# Altium footprint library 飞控接收机主板.PcbLib: 5 footprints
Each footprint in its own frame and in the unit in brackets; x right, y up, seen from the top. Pads: shape width x height; smd on the part's side, far side on the other; paste and mask are expansions set on the pad; w line width, h text height; cw(c..) or ccw(c..) is an arc to the next point about the centre after c.
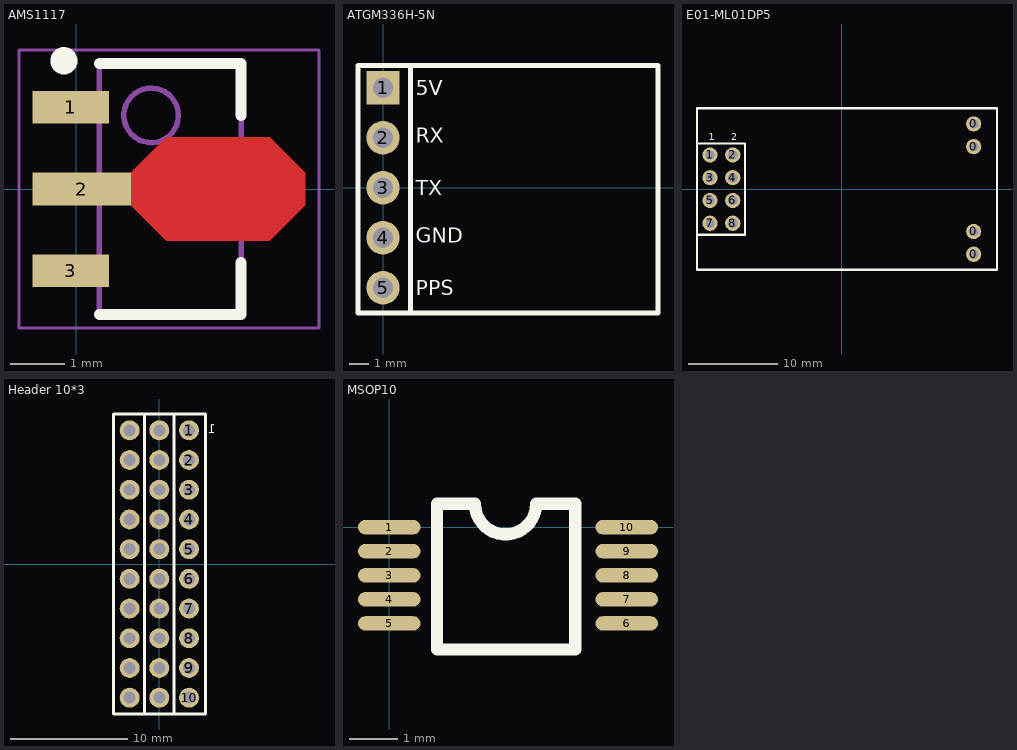
[diagram p0: the footprints below, top view; thin cyan lines are the x and y axes]

## AMS1117 [mm] "3V3降压芯片"
pads (3):
  rect 1.4x0.6 smd: 1(-0.1,1.5) 3(-0.1,-1.5)
  rect 1.8x0.6 smd: 2(0.1,0)
Top Layer:
  region: 0.889,0.189 1.65,0.95 3.55,0.95 4.2,0.3 4.2,-0.3 3.55,-0.95 1.65,-0.95 0.889,-0.189
Top Overlay:
  circle w0.25: c-0.227,2.35 r0.125
  lines w0.2: 0.423,-2.3 3.023,-2.3 3.023,-1.35 ; 0.423,2.3 3.023,2.3 3.023,1.35
Mechanical 13:
  circle w0.1: c1.373,1.35 r0.5
  lines w0.1: 0.423,-2.3 0.423,2.3 3.023,2.3 3.023,-2.3 0.423,-2.3
Mechanical 15:
  lines w0.05: -1.05,-2.55 -1.05,2.55 4.45,2.55 4.45,-2.55 -1.05,-2.55
  lines w0.1: 0.588,0 1.588,0 ; 1.723,-0.5 1.723,0.5
3D body "AMS1117.step": height 1.6, standoff 0, extent -0.5,-2.3 3.55,2.3

## ATGM336H-5N [mm] "GPS模块"
pads (5):
  rect 1.7x1.7 hole 1.02: 1(0,5.08)
  round 1.7 hole 1.02: 2(0,2.54) 3(0,0) 4(0,-2.54) 5(0,-5.08)
Top Overlay:
  lines w0.254: 1.397,-6.35 1.397,6.223 ; 13.922,6.223 -1.27,6.223 -1.27,-6.35 13.97,-6.35 13.97,6.223
  text "5V" at 1.651,4.699 h0.76
  text "RX" at 1.651,2.286 h0.76
  text "TX" at 1.651,-0.381 h0.76
  text "GND" at 1.651,-2.794 h0.76
  text "PPS" at 1.651,-5.461 h0.76

## E01-ML01DP5 [mm] "2.4G模块"
pads (12):
  round 1.7 hole 1.02: 0(14.7,-7.27) 0(14.7,-4.73) 0(14.7,4.73) 0(14.7,7.27) 1(-14.7,3.81) 2(-12.16,3.81) 3(-14.7,1.27) 4(-12.16,1.27) 5(-14.7,-1.27) 6(-12.16,-1.27) 7(-14.7,-3.81) 8(-12.16,-3.81)
Top Overlay:
  lines w0.254: -16.129,-5.08 -10.795,-5.08 -10.795,5.08 -16.002,5.08 ; 14.764,9.017 17.3,9.017 ; 17.3,9.017 17.3,9 17.3,-9 -16.15,-9 -16.15,0 -16.15,9.017 17.3,9.017
  text "2" at -12.319,5.461 h0.76
  text "1" at -14.859,5.461 h0.76

## Header 10*3 [mm] "10孔3排弯针接插件，2.54mm"
pads (30):
  round 1.7 hole 1.02: 1(2.54,11.43) 2(2.54,8.89) 3(2.54,6.35) 4(2.54,3.81) 5(2.54,1.27) 6(2.54,-1.27) 7(2.54,-3.81) 8(2.54,-6.35) 9(2.54,-8.89) 10(2.54,-11.43) ""(-2.54,-11.43) ""(-2.54,-8.89) ""(-2.54,-6.35) ""(-2.54,-3.81) ""(-2.54,-1.27) ""(-2.54,1.27) ""(-2.54,3.81) ""(-2.54,6.35) ""(-2.54,8.89) ""(-2.54,11.43) ""(0,-11.43) ""(0,-8.89) ""(0,-6.35) ""(0,-3.81) ""(0,-1.27) ""(0,1.27) ""(0,3.81) ""(0,6.35) ""(0,8.89) ""(0,11.43)
Top Overlay:
  lines w0.254: -1.27,-12.827 -1.27,12.827 1.27,12.827 1.27,-12.7 ; -3.937,-12.827 -3.937,12.827 3.937,12.827 3.937,-12.827 -3.937,-12.827
  text "1" at 4.826,11.176 h0.76

## MSOP10 [mm] "VSOP8"
height 5
pads (10):
  oval 1.3x0.3 smd: 1(0,0) 2(0,-0.5) 3(0,-1) 4(0,-1.5) 5(0,-2) 6(4.928,-2) 7(4.928,-1.5) 8(4.928,-1) 9(4.928,-0.5) 10(4.928,0)
Top Overlay:
  lines w0.254: 0.991,-2.54 3.861,-2.54 3.861,0.483 3.048,0.483 cw(c2.413,0.483) 1.778,0.483 0.991,0.483 0.991,-2.54
3D body "MSOP10-1.step": height 1.09, standoff 0, extent -0.111,-2.616 5.039,0.584